# Altium schematic symbol library LP3961EMP-3P3NOPB.SchLib: 1 symbol
Pins are listed as number, name and electrical type; pins without a type are passive.

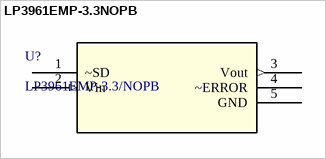
[diagram p0: symbol LP3961EMP-3.3NOPB]

## LP3961EMP-3.3NOPB
designator U?, comment LP3961EMP-3.3/NOPB
800-mA, high-accuracy, low-dropout voltage regulator with enable 5-SOT-223 -40 to 125; Manufacturer_Name: Texas Instruments; Type: LP3961EMP-1.8; Copyright: Copyright (C) 2026 Ultra Librarian. All rights reserved.; Manufacturer_Part_Number: LP3961EMP-3.3/NOPB; RefDes: RefDes
pins: 1 ~SD, 2 Vin (in), 3 Vout (out), 4 ~ERROR, 5 GND